# Altium footprint library EDR.PcbLib: 20 footprints (part 2 of 2)
Each footprint in its own frame and in the unit in brackets; x right, y up, seen from the top. Pads: shape width x height; smd on the part's side, far side on the other; paste and mask are expansions set on the pad; w line width, h text height; cw(c..) or ccw(c..) is an arc to the next point about the centre after c.
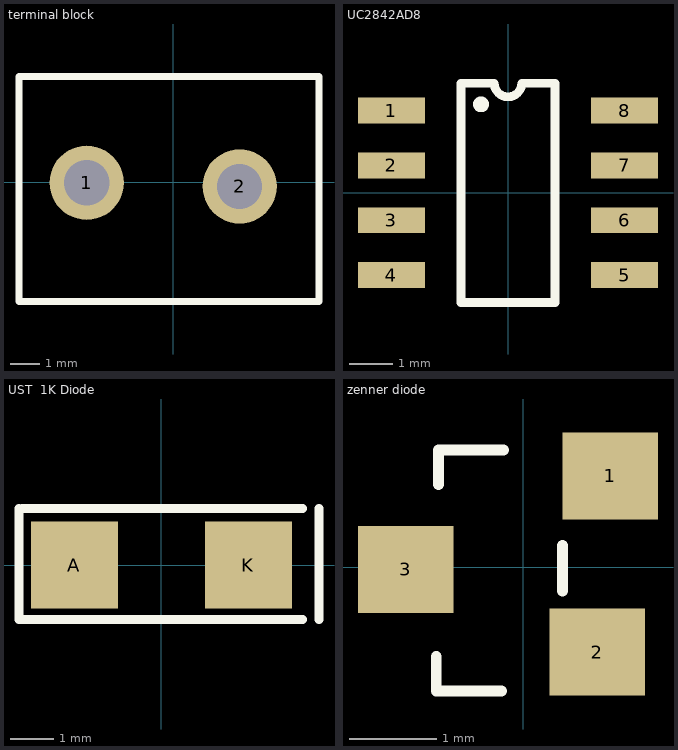
[diagram p1: the footprints below, top view; thin cyan lines are the x and y axes]

## terminal block [mm]
pads (2):
  round 2.55 hole 1.55: 1(-2.975,-0.025) 2(2.275,-0.15)
Top Overlay:
  lines w0.254: -5.3,-4.1 5,-4.1 5,3.625 -5.3,3.625 -5.3,-4.1
3D body "691137710002.step": height 11.5, standoff -3.6, extent -5.25,-4 4.75,3.5

## UC2842AD8 [mm]
pads (8):
  rect 1.55x0.6 smd: 1(-2.7,1.905) 2(-2.7,0.635) 3(-2.7,-0.635) 4(-2.7,-1.905) 5(2.7,-1.905) 6(2.7,-0.635) 7(2.7,0.635) 8(2.7,1.905)
Top Overlay:
  circle w0.254: c-0.625,2.05 r0.056
  lines w0.2: -1.09,-2.54 -1.09,2.54 -0.318,2.54 ccw(c0,2.54) 0.318,2.54 1.09,2.54 1.09,-2.54 -1.09,-2.54
3D body "D8.step": height 1.76, standoff 0, extent -3.099,-2.527 3.099,2.477

## UST  1K Diode [mm]
pads (2):
  rect 2x2 smd: A(-2,0) K(2,0)
Top Overlay:
  lines w0.2: -3.275,-1.25 -3.275,1.3 ; -3.25,-1.25 3.25,-1.25 ; -3.2,1.3 3.25,1.3 ; 3.625,-1.25 3.625,1.3
3D body: height 1.4, standoff 0, extent -2.375,-1.075 2.55,1.05

## zenner diode [mm]
pads (3):
  rect 1.1x1 smd: 1(1,1.05) 2(0.85,-0.975) 3(-1.35,-0.025)
Top Overlay:
  lines w0.125: -1,-1.025 -1,-1.425 -0.25,-1.425 ; -0.975,0.95 -0.975,1.35 -0.225,1.35 ; 0.45,-0.275 0.45,0.25
3D body "SOT-23_ONS.step": height 1.12, standoff 0, extent -1.496,-1.574 1.146,1.474